# EAGLE library part BD9G101G (library STM32_CAN-USB)
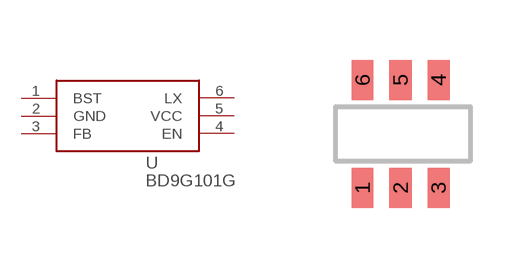
[diagram p1: symbol with the pads of SSOP6; footprint SSOP6]

Designator prefix -

## BD9G101G  [SSOP6]
1  BST  in
2  GND  pwr
3  FB  in
4  EN  in
5  VCC  pwr
6  LX  out

## Footprint SSOP6 (pad centres in mm)
smd 0.55 x 1: 1 0,-2.7; 2 0.95,-2.7; 3 1.9,-2.7; 4 1.9,0; 5 0.95,0; 6 0,0